# Altium schematic symbol library Converter_DCDC.SchLib: 947 symbols (part 9 of 12)
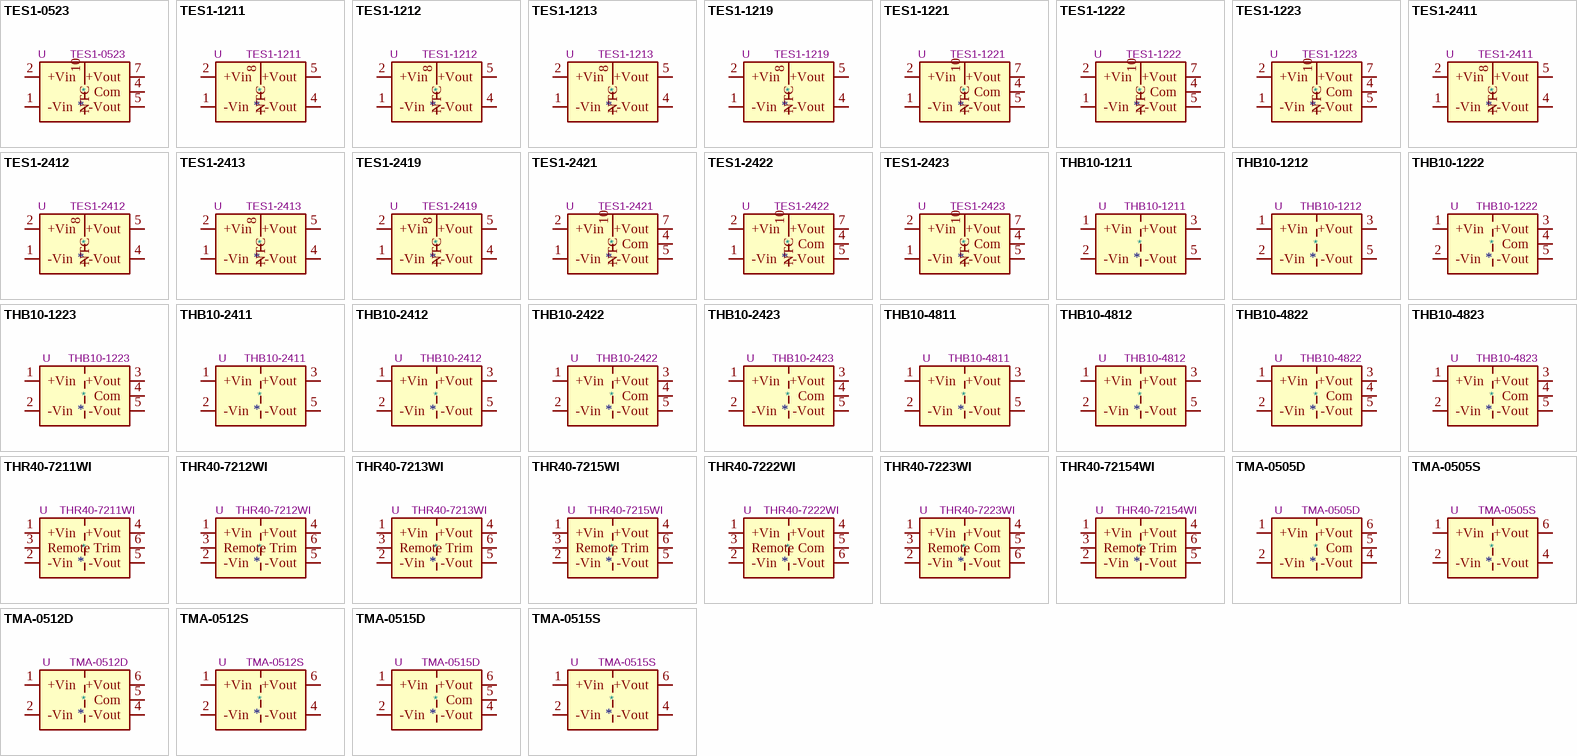
[diagram p31: symbols TES1-0523 to TMA-0515S]

## TES1-2413
designator *  value TES1-2413  Reference: U
1W DC/DC converter unregulated, 21.6-26.4V input, 15V fixed output voltage, 67mA output, 1.5kVDC isolation, SMD-8; ki_keywords: Traco isolated dc-dc not-regulated non-regulated single; ki_fp_filters: Converter*DCDC*TRACO*TES1*051x*121x*241x*Single*SMD*; Footprint: Converter_DCDC:Converter_DCDC_TRACO_TES1-051x_121x_241x_Single_SMD; Datasheet: https://www.tracopower.com/products/tes1.pdf; Description_: 1W DC/DC converter unregulated, 21.6-26.4V input, 15V fixed output voltage, 67mA output, 1.5kVDC isolation, SMD-8
pins: 1 -Vin, 2 +Vin, 4 -Vout, 5 +Vout, 8 NTC

## TES1-2419
designator *  value TES1-2419  Reference: U
1W DC/DC converter unregulated, 21.6-26.4V input, 9V fixed output voltage, 110mA output, 1.5kVDC isolation, SMD-8; ki_keywords: Traco isolated dc-dc not-regulated non-regulated single; ki_fp_filters: Converter*DCDC*TRACO*TES1*051x*121x*241x*Single*SMD*; Footprint: Converter_DCDC:Converter_DCDC_TRACO_TES1-051x_121x_241x_Single_SMD; Datasheet: https://www.tracopower.com/products/tes1.pdf; Description_: 1W DC/DC converter unregulated, 21.6-26.4V input, 9V fixed output voltage, 110mA output, 1.5kVDC isolation, SMD-8
pins: 1 -Vin, 2 +Vin, 4 -Vout, 5 +Vout, 8 NTC

## TES1-2421
designator *  value TES1-2421  Reference: U
1W DC/DC converter unregulated, 21.6-26.4V input, ±5V fixed output voltage, 100mA each output, 1.5kVDC isolation, SMD-10; ki_keywords: Traco isolated isolation dc-dc DC/DC converter not-regulated non-regulated dual 1W; ki_fp_filters: Converter*DCDC*TRACO*TES1*052x*122x*242x*Dual*SMD*; Footprint: Converter_DCDC:Converter_DCDC_TRACO_TES1-052x_122x_242x_Dual_SMD; Datasheet: https://www.tracopower.com/products/tes1.pdf; Description_: 1W DC/DC converter unregulated, 21.6-26.4V input, ±5V fixed output voltage, 100mA each output, 1.5kVDC isolation, SMD-10
pins: 1 -Vin, 2 +Vin, 4 Com, 5 -Vout, 7 +Vout, 10 NTC

## TES1-2422
designator *  value TES1-2422  Reference: U
1W DC/DC converter unregulated, 21.6-26.4V input, ±12V fixed output voltage, 42mA each output, 1.5kVDC isolation, SMD-10; ki_keywords: Traco isolated dc-dc not-regulated non-regulated dual; ki_fp_filters: Converter*DCDC*TRACO*TES1*052x*122x*242x*Dual*SMD*; Footprint: Converter_DCDC:Converter_DCDC_TRACO_TES1-052x_122x_242x_Dual_SMD; Datasheet: https://www.tracopower.com/products/tes1.pdf; Description_: 1W DC/DC converter unregulated, 21.6-26.4V input, ±12V fixed output voltage, 42mA each output, 1.5kVDC isolation, SMD-10
pins: 1 -Vin, 2 +Vin, 4 Com, 5 -Vout, 7 +Vout, 10 NTC

## TES1-2423
designator *  value TES1-2423  Reference: U
1W DC/DC converter unregulated, 21.6-26.4V input, ±15V fixed output voltage, 33mA each output, 1.5kVDC isolation, SMD-10; ki_keywords: Traco isolated dc-dc not-regulated non-regulated dual; ki_fp_filters: Converter*DCDC*TRACO*TES1*052x*122x*242x*Dual*SMD*; Footprint: Converter_DCDC:Converter_DCDC_TRACO_TES1-052x_122x_242x_Dual_SMD; Datasheet: https://www.tracopower.com/products/tes1.pdf; Description_: 1W DC/DC converter unregulated, 21.6-26.4V input, ±15V fixed output voltage, 33mA each output, 1.5kVDC isolation, SMD-10
pins: 1 -Vin, 2 +Vin, 4 Com, 5 -Vout, 7 +Vout, 10 NTC

## THB10-1211
designator *  value THB10-1211  Reference: U
10W DC/DC converter regulated, 9-18V input, 5.1V fixed output voltage, 1600mA output, reinforced 4.2kVAC isolation, 2"x1"; ki_keywords: Traco reinforced isolated isolation dc-dc converter regulated single 10W; ki_fp_filters: Converter*DCDC*TRACO*THB10*xxxx*Single*; Footprint: Converter_DCDC:Converter_DCDC_TRACO_THB10-xxxx_Single_THT; Datasheet: https://www.tracopower.com/products/thb10.pdf; Description_: 10W DC/DC converter regulated, 9-18V input, 5.1V fixed output voltage, 1600mA output, reinforced 4.2kVAC isolation, 2"x1"
pins: 1 +Vin, 2 -Vin, 3 +Vout, 5 -Vout

## THB10-1212
designator *  value THB10-1212  Reference: U
10W DC/DC converter regulated, 9-18V input, 12V fixed output voltage, 835mA output, reinforced 4.2kVAC isolation, 2"x1"; ki_keywords: Traco reinforced isolated isolation dc-dc converter regulated single 10W; ki_fp_filters: Converter*DCDC*TRACO*THB10*xxxx*Single*; Footprint: Converter_DCDC:Converter_DCDC_TRACO_THB10-xxxx_Single_THT; Datasheet: https://www.tracopower.com/products/thb10.pdf; Description_: 10W DC/DC converter regulated, 9-18V input, 12V fixed output voltage, 835mA output, reinforced 4.2kVAC isolation, 2"x1"
pins: 1 +Vin, 2 -Vin, 3 +Vout, 5 -Vout

## THB10-1222
designator *  value THB10-1222  Reference: U
10W DC/DC converter regulated, 9-18V input, ±12V fixed output voltage, 417mA each output, reinforced 4.2kVAC isolation, 2"x1"; ki_keywords: Traco reinforced isolated isolation dc-dc converter regulated dual 10W; ki_fp_filters: Converter*DCDC*TRACO*THB10*xxxx*Dual*; Footprint: Converter_DCDC:Converter_DCDC_TRACO_THB10-xxxx_Dual_THT; Datasheet: https://www.tracopower.com/products/thb10.pdf; Description_: 10W DC/DC converter regulated, 9-18V input, ±12V fixed output voltage, 417mA each output, reinforced 4.2kVAC isolation, 2"x1"
pins: 1 +Vin, 2 -Vin, 3 +Vout, 4 Com, 5 -Vout

## THB10-1223
designator *  value THB10-1223  Reference: U
10W DC/DC converter regulated, 9-18V input, ±15V fixed output voltage, 333mA each output, reinforced 4.2kVAC isolation, 2"x1"; ki_keywords: Traco reinforced isolated isolation dc-dc converter regulated dual 10W; ki_fp_filters: Converter*DCDC*TRACO*THB10*xxxx*Dual*; Footprint: Converter_DCDC:Converter_DCDC_TRACO_THB10-xxxx_Dual_THT; Datasheet: https://www.tracopower.com/products/thb10.pdf; Description_: 10W DC/DC converter regulated, 9-18V input, ±15V fixed output voltage, 333mA each output, reinforced 4.2kVAC isolation, 2"x1"
pins: 1 +Vin, 2 -Vin, 3 +Vout, 4 Com, 5 -Vout

## THB10-2411
designator *  value THB10-2411  Reference: U
10W DC/DC converter regulated, 18-36V input, 5.1V fixed output voltage, 2000mA output, reinforced 4.2kVAC isolation, 2"x1"; ki_keywords: Traco reinforced isolated isolation dc-dc converter regulated single 10W; ki_fp_filters: Converter*DCDC*TRACO*THB10*xxxx*Single*; Footprint: Converter_DCDC:Converter_DCDC_TRACO_THB10-xxxx_Single_THT; Datasheet: https://www.tracopower.com/products/thb10.pdf; Description_: 10W DC/DC converter regulated, 18-36V input, 5.1V fixed output voltage, 2000mA output, reinforced 4.2kVAC isolation, 2"x1"
pins: 1 +Vin, 2 -Vin, 3 +Vout, 5 -Vout

## THB10-2412
designator *  value THB10-2412  Reference: U
10W DC/DC converter regulated, 18-36V input, 12V fixed output voltage, 835mA output, reinforced 4.2kVAC isolation, 2"x1"; ki_keywords: Traco reinforced isolated isolation dc-dc converter regulated single 10W; ki_fp_filters: Converter*DCDC*TRACO*THB10*xxxx*Single*; Footprint: Converter_DCDC:Converter_DCDC_TRACO_THB10-xxxx_Single_THT; Datasheet: https://www.tracopower.com/products/thb10.pdf; Description_: 10W DC/DC converter regulated, 18-36V input, 12V fixed output voltage, 835mA output, reinforced 4.2kVAC isolation, 2"x1"
pins: 1 +Vin, 2 -Vin, 3 +Vout, 5 -Vout

## THB10-2422
designator *  value THB10-2422  Reference: U
10W DC/DC converter regulated, 18-36V input, ±12V fixed output voltage, 417mA each output, reinforced 4.2kVAC isolation, 2"x1"; ki_keywords: Traco reinforced isolated isolation dc-dc converter regulated dual 10W; ki_fp_filters: Converter*DCDC*TRACO*THB10*xxxx*Dual*; Footprint: Converter_DCDC:Converter_DCDC_TRACO_THB10-xxxx_Dual_THT; Datasheet: https://www.tracopower.com/products/thb10.pdf; Description_: 10W DC/DC converter regulated, 18-36V input, ±12V fixed output voltage, 417mA each output, reinforced 4.2kVAC isolation, 2"x1"
pins: 1 +Vin, 2 -Vin, 3 +Vout, 4 Com, 5 -Vout

## THB10-2423
designator *  value THB10-2423  Reference: U
10W DC/DC converter regulated, 18-36V input, ±15V fixed output voltage, 333mA each output, reinforced 4.2kVAC isolation, 2"x1"; ki_keywords: Traco reinforced isolated isolation dc-dc converter regulated dual 10W; ki_fp_filters: Converter*DCDC*TRACO*THB10*xxxx*Dual*; Footprint: Converter_DCDC:Converter_DCDC_TRACO_THB10-xxxx_Dual_THT; Datasheet: https://www.tracopower.com/products/thb10.pdf; Description_: 10W DC/DC converter regulated, 18-36V input, ±15V fixed output voltage, 333mA each output, reinforced 4.2kVAC isolation, 2"x1"
pins: 1 +Vin, 2 -Vin, 3 +Vout, 4 Com, 5 -Vout

## THB10-4811
designator *  value THB10-4811  Reference: U
10W DC/DC converter regulated, 36-75V input, 5.1V fixed output voltage, 2000mA output, reinforced 4.2kVAC isolation, 2"x1"; ki_keywords: Traco reinforced isolated isolation dc-dc converter regulated single 10W; ki_fp_filters: Converter*DCDC*TRACO*THB10*xxxx*Single*; Footprint: Converter_DCDC:Converter_DCDC_TRACO_THB10-xxxx_Single_THT; Datasheet: https://www.tracopower.com/products/thb10.pdf; Description_: 10W DC/DC converter regulated, 36-75V input, 5.1V fixed output voltage, 2000mA output, reinforced 4.2kVAC isolation, 2"x1"
pins: 1 +Vin, 2 -Vin, 3 +Vout, 5 -Vout

## THB10-4812
designator *  value THB10-4812  Reference: U
10W DC/DC converter regulated, 36-75V input, 12V fixed output voltage, 835mA output, reinforced 4.2kVAC isolation, 2"x1"; ki_keywords: Traco reinforced isolated isolation dc-dc converter regulated single 10W; ki_fp_filters: Converter*DCDC*TRACO*THB10*xxxx*Single*; Footprint: Converter_DCDC:Converter_DCDC_TRACO_THB10-xxxx_Single_THT; Datasheet: https://www.tracopower.com/products/thb10.pdf; Description_: 10W DC/DC converter regulated, 36-75V input, 12V fixed output voltage, 835mA output, reinforced 4.2kVAC isolation, 2"x1"
pins: 1 +Vin, 2 -Vin, 3 +Vout, 5 -Vout

## THB10-4822
designator *  value THB10-4822  Reference: U
10W DC/DC converter regulated, 36-75V input, ±12V fixed output voltage, 417mA each output, reinforced 4.2kVAC isolation, 2"x1"; ki_keywords: Traco reinforced isolated isolation dc-dc converter regulated dual 10W; ki_fp_filters: Converter*DCDC*TRACO*THB10*xxxx*Dual*; Footprint: Converter_DCDC:Converter_DCDC_TRACO_THB10-xxxx_Dual_THT; Datasheet: https://www.tracopower.com/products/thb10.pdf; Description_: 10W DC/DC converter regulated, 36-75V input, ±12V fixed output voltage, 417mA each output, reinforced 4.2kVAC isolation, 2"x1"
pins: 1 +Vin, 2 -Vin, 3 +Vout, 4 Com, 5 -Vout

## THB10-4823
designator *  value THB10-4823  Reference: U
10W DC/DC converter regulated, 36-75V input, ±15V fixed output voltage, 333mA each output, reinforced 4.2kVAC isolation, 2"x1"; ki_keywords: Traco reinforced isolated isolation dc-dc converter regulated dual 10W; ki_fp_filters: Converter*DCDC*TRACO*THB10*xxxx*Dual*; Footprint: Converter_DCDC:Converter_DCDC_TRACO_THB10-xxxx_Dual_THT; Datasheet: https://www.tracopower.com/products/thb10.pdf; Description_: 10W DC/DC converter regulated, 36-75V input, ±15V fixed output voltage, 333mA each output, reinforced 4.2kVAC isolation, 2"x1"
pins: 1 +Vin, 2 -Vin, 3 +Vout, 4 Com, 5 -Vout

## THR40-7211WI
designator *  value THR40-7211WI  Reference: U
40W DC/DC industrial converter regulated, 36-160V input, 5V fixed output voltage, 8A output, 3.0kVAC isolation, 2”x1”; ki_keywords: Traco isolated dc-dc 62368-1 single; ki_fp_filters: Converter*DCDC*TRACO*THR40*72xxWI*THT*; Footprint: Converter_DCDC:Converter_DCDC_TRACO_THR40-72xxWI_THT; Datasheet: https://www.tracopower.com/products/thr40wi.pdf; Description_: 40W DC/DC industrial converter regulated, 36-160V input, 5V fixed output voltage, 8A output, 3.0kVAC isolation, 2”x1”
pins: 1 +Vin, 2 -Vin, 3 Remote, 4 +Vout, 5 -Vout, 6 Trim

## THR40-7212WI
designator *  value THR40-7212WI  Reference: U
40W DC/DC industrial converter regulated, 36-160V input, 12V fixed output voltage, 3.33A output, 3.0kVAC isolation, 2”x1”; ki_keywords: Traco isolated dc-dc 62368-1 single; ki_fp_filters: Converter*DCDC*TRACO*THR40*72xxWI*THT*; Footprint: Converter_DCDC:Converter_DCDC_TRACO_THR40-72xxWI_THT; Datasheet: https://www.tracopower.com/products/thr40wi.pdf; Description_: 40W DC/DC industrial converter regulated, 36-160V input, 12V fixed output voltage, 3.33A output, 3.0kVAC isolation, 2”x1”
pins: 1 +Vin, 2 -Vin, 3 Remote, 4 +Vout, 5 -Vout, 6 Trim

## THR40-7213WI
designator *  value THR40-7213WI  Reference: U
40W DC/DC industrial converter regulated, 36-160V input, 15V fixed output voltage, 2.67A output, 3.0kVAC isolation, 2”x1”; ki_keywords: Traco isolated dc-dc 62368-1 single; ki_fp_filters: Converter*DCDC*TRACO*THR40*72xxWI*THT*; Footprint: Converter_DCDC:Converter_DCDC_TRACO_THR40-72xxWI_THT; Datasheet: https://www.tracopower.com/products/thr40wi.pdf; Description_: 40W DC/DC industrial converter regulated, 36-160V input, 15V fixed output voltage, 2.67A output, 3.0kVAC isolation, 2”x1”
pins: 1 +Vin, 2 -Vin, 3 Remote, 4 +Vout, 5 -Vout, 6 Trim

## THR40-7215WI
designator *  value THR40-7215WI  Reference: U
40W DC/DC industrial converter regulated, 36-160V input, 24V fixed output voltage, 1.67A output, 3.0kVAC isolation, 2”x1”; ki_keywords: Traco isolated dc-dc 62368-1 single; ki_fp_filters: Converter*DCDC*TRACO*THR40*72xxWI*THT*; Footprint: Converter_DCDC:Converter_DCDC_TRACO_THR40-72xxWI_THT; Datasheet: https://www.tracopower.com/products/thr40wi.pdf; Description_: 40W DC/DC industrial converter regulated, 36-160V input, 24V fixed output voltage, 1.67A output, 3.0kVAC isolation, 2”x1”
pins: 1 +Vin, 2 -Vin, 3 Remote, 4 +Vout, 5 -Vout, 6 Trim

## THR40-7222WI
designator *  value THR40-7222WI  Reference: U
40W DC/DC industrial converter regulated, 36-160V input, ±12V fixed output voltage, 1.67A each output, 3.0kVAC isolation, 2”x1”; ki_keywords: Traco isolated dc-dc 62368-1 dual; ki_fp_filters: Converter*DCDC*TRACO*THR40*72xxWI*THT*; Footprint: Converter_DCDC:Converter_DCDC_TRACO_THR40-72xxWI_THT; Datasheet: https://www.tracopower.com/products/thr40wi.pdf; Description_: 40W DC/DC industrial converter regulated, 36-160V input, ±12V fixed output voltage, 1.67A each output, 3.0kVAC isolation, 2”x1”
pins: 1 +Vin, 2 -Vin, 3 Remote, 4 +Vout, 5 Com, 6 -Vout

## THR40-7223WI
designator *  value THR40-7223WI  Reference: U
40W DC/DC industrial converter regulated, 36-160V input, ±15V fixed output voltage, 1.33A each output, 3.0kVAC isolation, 2”x1”; ki_keywords: Traco isolated dc-dc 62368-1 dual; ki_fp_filters: Converter*DCDC*TRACO*THR40*72xxWI*THT*; Footprint: Converter_DCDC:Converter_DCDC_TRACO_THR40-72xxWI_THT; Datasheet: https://www.tracopower.com/products/thr40wi.pdf; Description_: 40W DC/DC industrial converter regulated, 36-160V input, ±15V fixed output voltage, 1.33A each output, 3.0kVAC isolation, 2”x1”
pins: 1 +Vin, 2 -Vin, 3 Remote, 4 +Vout, 5 Com, 6 -Vout

## THR40-72154WI
designator *  value THR40-72154WI  Reference: U
40W DC/DC industrial converter regulated, 36-160V input, 54V fixed output voltage, 741mA output, 3.0kVAC isolation, 2”x1”; ki_keywords: Traco isolated dc-dc 62368-1 single; ki_fp_filters: Converter*DCDC*TRACO*THR40*72xxWI*THT*; Footprint: Converter_DCDC:Converter_DCDC_TRACO_THR40-72xxWI_THT; Datasheet: https://www.tracopower.com/products/thr40wi.pdf; Description_: 40W DC/DC industrial converter regulated, 36-160V input, 54V fixed output voltage, 741mA output, 3.0kVAC isolation, 2”x1”
pins: 1 +Vin, 2 -Vin, 3 Remote, 4 +Vout, 5 -Vout, 6 Trim

## TMA-0505D
designator *  value TMA-0505D  Reference: U
1W DC/DC converter unregulated, 4.5-5.5V input, ±5V fixed output voltage, 100mA each output, 1.0kVDC isolation, SIP-7; ki_keywords: Traco isolated isolation dc-dc DC/DC converter not-regulated non-regulated dual 1W; ki_fp_filters: Converter*DCDC*TRACO*TMA*05xx*Dual*; Footprint: Converter_DCDC:Converter_DCDC_TRACO_TMA-05xxD_12xxD_Dual_THT; Datasheet: https://www.tracopower.com/products/tma.pdf; Description_: 1W DC/DC converter unregulated, 4.5-5.5V input, ±5V fixed output voltage, 100mA each output, 1.0kVDC isolation, SIP-7
pins: 1 +Vin, 2 -Vin, 4 -Vout, 5 Com, 6 +Vout

## TMA-0505S
designator *  value TMA-0505S  Reference: U
1W DC/DC converter unregulated, 4.5-5.5V input, 5V fixed output voltage, 200mA output, 1.0kVDC isolation, SIP-7; ki_keywords: Traco isolated isolation dc-dc converter not-regulated non-regulated single 1W; ki_fp_filters: Converter*DCDC*TRACO*TMA*05xx*Single*; Footprint: Converter_DCDC:Converter_DCDC_TRACO_TMA-05xxS_12xxS_Single_THT; Datasheet: https://www.tracopower.com/products/tma.pdf; Description_: 1W DC/DC converter unregulated, 4.5-5.5V input, 5V fixed output voltage, 200mA output, 1.0kVDC isolation, SIP-7
pins: 1 +Vin, 2 -Vin, 4 -Vout, 6 +Vout

## TMA-0512D
designator *  value TMA-0512D  Reference: U
1W DC/DC converter unregulated, 4.5-5.5V input, ±12V fixed output voltage, 42mA each output, 1.0kVDC isolation, SIP-7; ki_keywords: Traco isolated isolation dc-dc DC/DC converter not-regulated non-regulated dual 1W; ki_fp_filters: Converter*DCDC*TRACO*TMA*05xx*Dual*; Footprint: Converter_DCDC:Converter_DCDC_TRACO_TMA-05xxD_12xxD_Dual_THT; Datasheet: https://www.tracopower.com/products/tma.pdf; Description_: 1W DC/DC converter unregulated, 4.5-5.5V input, ±12V fixed output voltage, 42mA each output, 1.0kVDC isolation, SIP-7
pins: 1 +Vin, 2 -Vin, 4 -Vout, 5 Com, 6 +Vout

## TMA-0512S
designator *  value TMA-0512S  Reference: U
1W DC/DC converter unregulated, 4.5-5.5V input, 12V fixed output voltage, 84mA output, 1.0kVDC isolation, SIP-7; ki_keywords: Traco isolated isolation dc-dc converter not-regulated non-regulated single 1W; ki_fp_filters: Converter*DCDC*TRACO*TMA*05xx*Single*; Footprint: Converter_DCDC:Converter_DCDC_TRACO_TMA-05xxS_12xxS_Single_THT; Datasheet: https://www.tracopower.com/products/tma.pdf; Description_: 1W DC/DC converter unregulated, 4.5-5.5V input, 12V fixed output voltage, 84mA output, 1.0kVDC isolation, SIP-7
pins: 1 +Vin, 2 -Vin, 4 -Vout, 6 +Vout

## TMA-0515D
designator *  value TMA-0515D  Reference: U
1W DC/DC converter unregulated, 4.5-5.5V input, ±15V fixed output voltage, 34mA each output, 1.0kVDC isolation, SIP-7; ki_keywords: Traco isolated isolation dc-dc DC/DC converter not-regulated non-regulated dual 1W; ki_fp_filters: Converter*DCDC*TRACO*TMA*05xx*Dual*; Footprint: Converter_DCDC:Converter_DCDC_TRACO_TMA-05xxD_12xxD_Dual_THT; Datasheet: https://www.tracopower.com/products/tma.pdf; Description_: 1W DC/DC converter unregulated, 4.5-5.5V input, ±15V fixed output voltage, 34mA each output, 1.0kVDC isolation, SIP-7
pins: 1 +Vin, 2 -Vin, 4 -Vout, 5 Com, 6 +Vout

## TMA-0515S
designator *  value TMA-0515S  Reference: U
1W DC/DC converter unregulated, 4.5-5.5V input, 15V fixed output voltage, 67mA output, 1.0kVDC isolation, SIP-7; ki_keywords: Traco isolated isolation dc-dc converter not-regulated non-regulated single 1W; ki_fp_filters: Converter*DCDC*TRACO*TMA*05xx*Single*; Footprint: Converter_DCDC:Converter_DCDC_TRACO_TMA-05xxS_12xxS_Single_THT; Datasheet: https://www.tracopower.com/products/tma.pdf; Description_: 1W DC/DC converter unregulated, 4.5-5.5V input, 15V fixed output voltage, 67mA output, 1.0kVDC isolation, SIP-7
pins: 1 +Vin, 2 -Vin, 4 -Vout, 6 +Vout

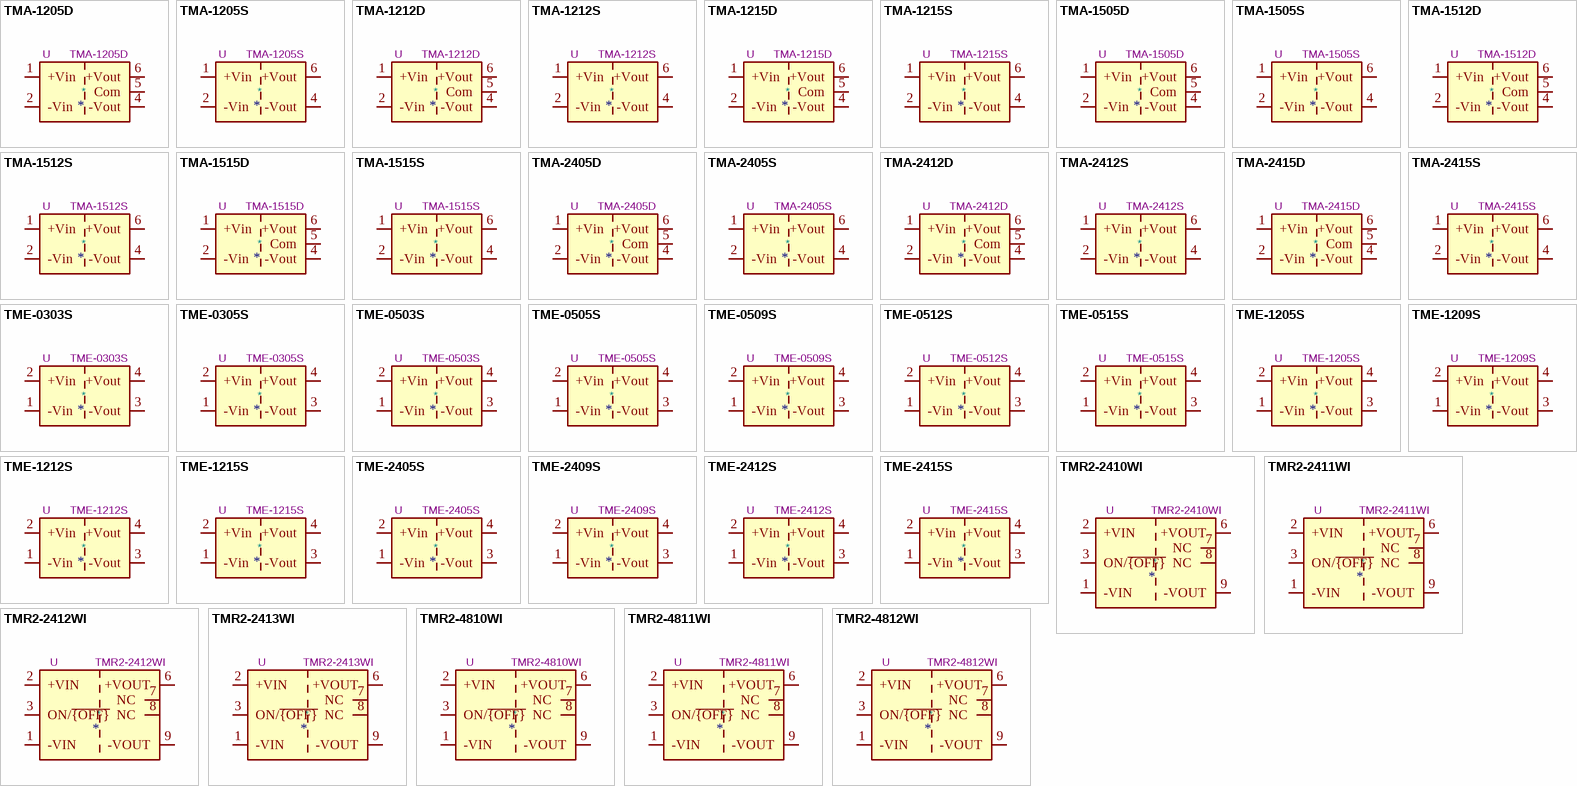
[diagram p18: symbols TMA-1205D to TMR2-4812WI]

## TMA-1205D
designator *  value TMA-1205D  Reference: U
1W DC/DC converter unregulated, 10.8-13.2V input, ±5V fixed output voltage, 100mA each output, 1.0kVDC isolation, SIP-7; ki_keywords: Traco isolated isolation dc-dc DC/DC converter not-regulated non-regulated dual 1W; ki_fp_filters: Converter*DCDC*TRACO*TMA*12xx*Dual*; Footprint: Converter_DCDC:Converter_DCDC_TRACO_TMA-05xxD_12xxD_Dual_THT; Datasheet: https://www.tracopower.com/products/tma.pdf; Description_: 1W DC/DC converter unregulated, 10.8-13.2V input, ±5V fixed output voltage, 100mA each output, 1.0kVDC isolation, SIP-7
pins: 1 +Vin, 2 -Vin, 4 -Vout, 5 Com, 6 +Vout

## TMA-1205S
designator *  value TMA-1205S  Reference: U
1W DC/DC converter unregulated, 10.8-13.2V input, 5V fixed output voltage, 200mA output, 1.0kVDC isolation, SIP-7; ki_keywords: Traco isolated isolation dc-dc converter not-regulated non-regulated single 1W; ki_fp_filters: Converter*DCDC*TRACO*TMA*12xx*Single*; Footprint: Converter_DCDC:Converter_DCDC_TRACO_TMA-05xxS_12xxS_Single_THT; Datasheet: https://www.tracopower.com/products/tma.pdf; Description_: 1W DC/DC converter unregulated, 10.8-13.2V input, 5V fixed output voltage, 200mA output, 1.0kVDC isolation, SIP-7
pins: 1 +Vin, 2 -Vin, 4 -Vout, 6 +Vout

## TMA-1212D
designator *  value TMA-1212D  Reference: U
1W DC/DC converter unregulated, 10.8-13.2 input, ±12V fixed output voltage, 42mA each output, 1.0kVDC isolation, SIP-7; ki_keywords: Traco isolated isolation dc-dc DC/DC converter not-regulated non-regulated dual 1W; ki_fp_filters: Converter*DCDC*TRACO*TMA*12xx*Dual*; Footprint: Converter_DCDC:Converter_DCDC_TRACO_TMA-05xxD_12xxD_Dual_THT; Datasheet: https://www.tracopower.com/products/tma.pdf; Description_: 1W DC/DC converter unregulated, 10.8-13.2 input, ±12V fixed output voltage, 42mA each output, 1.0kVDC isolation, SIP-7
pins: 1 +Vin, 2 -Vin, 4 -Vout, 5 Com, 6 +Vout

## TMA-1212S
designator *  value TMA-1212S  Reference: U
1W DC/DC converter unregulated, 10.8-13.2V input, 12V fixed output voltage, 84mA output, 1.0kVDC isolation, SIP-7; ki_keywords: Traco isolated isolation dc-dc converter not-regulated non-regulated single 1W; ki_fp_filters: Converter*DCDC*TRACO*TMA*12xx*Single*; Footprint: Converter_DCDC:Converter_DCDC_TRACO_TMA-05xxS_12xxS_Single_THT; Datasheet: https://www.tracopower.com/products/tma.pdf; Description_: 1W DC/DC converter unregulated, 10.8-13.2V input, 12V fixed output voltage, 84mA output, 1.0kVDC isolation, SIP-7
pins: 1 +Vin, 2 -Vin, 4 -Vout, 6 +Vout

## TMA-1215D
designator *  value TMA-1215D  Reference: U
1W DC/DC converter unregulated, 10.8-13.2V input, ±15V fixed output voltage, 34mA each output, 1.0kVDC isolation, SIP-7; ki_keywords: Traco isolated isolation dc-dc DC/DC converter not-regulated non-regulated dual 1W; ki_fp_filters: Converter*DCDC*TRACO*TMA*12xx*Dual*; Footprint: Converter_DCDC:Converter_DCDC_TRACO_TMA-05xxD_12xxD_Dual_THT; Datasheet: https://www.tracopower.com/products/tma.pdf; Description_: 1W DC/DC converter unregulated, 10.8-13.2V input, ±15V fixed output voltage, 34mA each output, 1.0kVDC isolation, SIP-7
pins: 1 +Vin, 2 -Vin, 4 -Vout, 5 Com, 6 +Vout

## TMA-1215S
designator *  value TMA-1215S  Reference: U
1W DC/DC converter unregulated, 10.8-13.2V input, 15V fixed output voltage, 67mA output, 1.0kVDC isolation, SIP-7; ki_keywords: Traco isolated isolation dc-dc converter not-regulated non-regulated single 1W; ki_fp_filters: Converter*DCDC*TRACO*TMA*12xx*Single*; Footprint: Converter_DCDC:Converter_DCDC_TRACO_TMA-05xxS_12xxS_Single_THT; Datasheet: https://www.tracopower.com/products/tma.pdf; Description_: 1W DC/DC converter unregulated, 10.8-13.2V input, 15V fixed output voltage, 67mA output, 1.0kVDC isolation, SIP-7
pins: 1 +Vin, 2 -Vin, 4 -Vout, 6 +Vout

## TMA-1505D
designator *  value TMA-1505D  Reference: U
1W DC/DC converter unregulated, 13.5-16.5V input, ±5V fixed output voltage, 100mA each output, 1.0kVDC isolation, SIP-7; ki_keywords: Traco isolated isolation dc-dc DC/DC converter not-regulated non-regulated dual 1W; ki_fp_filters: Converter*DCDC*TRACO*TMA*15xx*Dual*; Footprint: Converter_DCDC:Converter_DCDC_TRACO_TMA-15xxD_24xxD_Dual_THT; Datasheet: https://www.tracopower.com/products/tma.pdf; Description_: 1W DC/DC converter unregulated, 13.5-16.5V input, ±5V fixed output voltage, 100mA each output, 1.0kVDC isolation, SIP-7
pins: 1 +Vin, 2 -Vin, 4 -Vout, 5 Com, 6 +Vout

## TMA-1505S
designator *  value TMA-1505S  Reference: U
1W DC/DC converter unregulated, 13.5-16.5V input, 5V fixed output voltage, 200mA output, 1.0kVDC isolation, SIP-7; ki_keywords: Traco isolated isolation dc-dc converter not-regulated non-regulated single 1W; ki_fp_filters: Converter*DCDC*TRACO*TMA*15xx*Single*; Footprint: Converter_DCDC:Converter_DCDC_TRACO_TMA-15xxS_24xxS_Single_THT; Datasheet: https://www.tracopower.com/products/tma.pdf; Description_: 1W DC/DC converter unregulated, 13.5-16.5V input, 5V fixed output voltage, 200mA output, 1.0kVDC isolation, SIP-7
pins: 1 +Vin, 2 -Vin, 4 -Vout, 6 +Vout

## TMA-1512D
designator *  value TMA-1512D  Reference: U
1W DC/DC converter unregulated, 13.5-16.5V input, ±12V fixed output voltage, 42mA each output, 1.0kVDC isolation, SIP-7; ki_keywords: Traco isolated isolation dc-dc DC/DC converter not-regulated non-regulated dual 1W; ki_fp_filters: Converter*DCDC*TRACO*TMA*15xx*Dual*; Footprint: Converter_DCDC:Converter_DCDC_TRACO_TMA-15xxD_24xxD_Dual_THT; Datasheet: https://www.tracopower.com/products/tma.pdf; Description_: 1W DC/DC converter unregulated, 13.5-16.5V input, ±12V fixed output voltage, 42mA each output, 1.0kVDC isolation, SIP-7
pins: 1 +Vin, 2 -Vin, 4 -Vout, 5 Com, 6 +Vout

## TMA-1512S
designator *  value TMA-1512S  Reference: U
1W DC/DC converter unregulated, 13.5-16.5V input, 12V fixed output voltage, 84mA output, 1.0kVDC isolation, SIP-7; ki_keywords: Traco isolated isolation dc-dc converter not-regulated non-regulated single 1W; ki_fp_filters: Converter*DCDC*TRACO*TMA*15xx*Single*; Footprint: Converter_DCDC:Converter_DCDC_TRACO_TMA-15xxS_24xxS_Single_THT; Datasheet: https://www.tracopower.com/products/tma.pdf; Description_: 1W DC/DC converter unregulated, 13.5-16.5V input, 12V fixed output voltage, 84mA output, 1.0kVDC isolation, SIP-7
pins: 1 +Vin, 2 -Vin, 4 -Vout, 6 +Vout

## TMA-1515D
designator *  value TMA-1515D  Reference: U
1W DC/DC converter unregulated, 13.5-16.5V input, ±15V fixed output voltage, 34mA each output, 1.0kVDC isolation, SIP-7; ki_keywords: Traco isolated isolation dc-dc DC/DC converter not-regulated non-regulated dual 1W; ki_fp_filters: Converter*DCDC*TRACO*TMA*15xx*Dual*; Footprint: Converter_DCDC:Converter_DCDC_TRACO_TMA-15xxD_24xxD_Dual_THT; Datasheet: https://www.tracopower.com/products/tma.pdf; Description_: 1W DC/DC converter unregulated, 13.5-16.5V input, ±15V fixed output voltage, 34mA each output, 1.0kVDC isolation, SIP-7
pins: 1 +Vin, 2 -Vin, 4 -Vout, 5 Com, 6 +Vout

## TMA-1515S
designator *  value TMA-1515S  Reference: U
1W DC/DC converter unregulated, 13.5-16.5V input, 15V fixed output voltage, 67mA output, 1.0kVDC isolation, SIP-7; ki_keywords: Traco isolated isolation dc-dc converter not-regulated non-regulated single 1W; ki_fp_filters: Converter*DCDC*TRACO*TMA*15xx*Single*; Footprint: Converter_DCDC:Converter_DCDC_TRACO_TMA-15xxS_24xxS_Single_THT; Datasheet: https://www.tracopower.com/products/tma.pdf; Description_: 1W DC/DC converter unregulated, 13.5-16.5V input, 15V fixed output voltage, 67mA output, 1.0kVDC isolation, SIP-7
pins: 1 +Vin, 2 -Vin, 4 -Vout, 6 +Vout

## TMA-2405D
designator *  value TMA-2405D  Reference: U
1W DC/DC converter unregulated, 21.6-26.4V input, ±5V fixed output voltage, 100mA each output, 1.0kVDC isolation, SIP-7; ki_keywords: Traco isolated isolation dc-dc DC/DC converter not-regulated non-regulated dual 1W; ki_fp_filters: Converter*DCDC*TRACO*TMA*24xx*Dual*; Footprint: Converter_DCDC:Converter_DCDC_TRACO_TMA-15xxD_24xxD_Dual_THT; Datasheet: https://www.tracopower.com/products/tma.pdf; Description_: 1W DC/DC converter unregulated, 21.6-26.4V input, ±5V fixed output voltage, 100mA each output, 1.0kVDC isolation, SIP-7
pins: 1 +Vin, 2 -Vin, 4 -Vout, 5 Com, 6 +Vout

## TMA-2405S
designator *  value TMA-2405S  Reference: U
1W DC/DC converter unregulated, 21.6-26.4V input, 5V fixed output voltage, 200mA output, 1.0kVDC isolation, SIP-7; ki_keywords: Traco isolated isolation dc-dc converter not-regulated non-regulated single 1W; ki_fp_filters: Converter*DCDC*TRACO*TMA*24xx*Single*; Footprint: Converter_DCDC:Converter_DCDC_TRACO_TMA-15xxS_24xxS_Single_THT; Datasheet: https://www.tracopower.com/products/tma.pdf; Description_: 1W DC/DC converter unregulated, 21.6-26.4V input, 5V fixed output voltage, 200mA output, 1.0kVDC isolation, SIP-7
pins: 1 +Vin, 2 -Vin, 4 -Vout, 6 +Vout

## TMA-2412D
designator *  value TMA-2412D  Reference: U
1W DC/DC converter unregulated, 21.6-26.4V input, ±12V fixed output voltage, 42mA each output, 1.0kVDC isolation, SIP-7; ki_keywords: Traco isolated isolation dc-dc DC/DC converter not-regulated non-regulated dual 1W; ki_fp_filters: Converter*DCDC*TRACO*TMA*24xx*Dual*; Footprint: Converter_DCDC:Converter_DCDC_TRACO_TMA-15xxD_24xxD_Dual_THT; Datasheet: https://www.tracopower.com/products/tma.pdf; Description_: 1W DC/DC converter unregulated, 21.6-26.4V input, ±12V fixed output voltage, 42mA each output, 1.0kVDC isolation, SIP-7
pins: 1 +Vin, 2 -Vin, 4 -Vout, 5 Com, 6 +Vout

## TMA-2412S
designator *  value TMA-2412S  Reference: U
1W DC/DC converter unregulated, 21.6-26.4V input, 12V fixed output voltage, 84mA output, 1.0kVDC isolation, SIP-7; ki_keywords: Traco isolated isolation dc-dc converter not-regulated non-regulated single 1W; ki_fp_filters: Converter*DCDC*TRACO*TMA*24xx*Single*; Footprint: Converter_DCDC:Converter_DCDC_TRACO_TMA-15xxS_24xxS_Single_THT; Datasheet: https://www.tracopower.com/products/tma.pdf; Description_: 1W DC/DC converter unregulated, 21.6-26.4V input, 12V fixed output voltage, 84mA output, 1.0kVDC isolation, SIP-7
pins: 1 +Vin, 2 -Vin, 4 -Vout, 6 +Vout

## TMA-2415D
designator *  value TMA-2415D  Reference: U
1W DC/DC converter unregulated, 21.6-26.4V input, ±15V fixed output voltage, 34mA each output, 1.0kVDC isolation, SIP-7; ki_keywords: Traco isolated isolation dc-dc DC/DC converter not-regulated non-regulated dual 1W; ki_fp_filters: Converter*DCDC*TRACO*TMA*24xx*Dual*; Footprint: Converter_DCDC:Converter_DCDC_TRACO_TMA-15xxD_24xxD_Dual_THT; Datasheet: https://www.tracopower.com/products/tma.pdf; Description_: 1W DC/DC converter unregulated, 21.6-26.4V input, ±15V fixed output voltage, 34mA each output, 1.0kVDC isolation, SIP-7
pins: 1 +Vin, 2 -Vin, 4 -Vout, 5 Com, 6 +Vout

## TMA-2415S
designator *  value TMA-2415S  Reference: U
1W DC/DC converter unregulated, 21.6-26.4V input, 15V fixed output voltage, 67mA output, 1.0kVDC isolation, SIP-7; ki_keywords: Traco isolated isolation dc-dc converter not-regulated non-regulated single 1W; ki_fp_filters: Converter*DCDC*TRACO*TMA*24xx*Single*; Footprint: Converter_DCDC:Converter_DCDC_TRACO_TMA-15xxS_24xxS_Single_THT; Datasheet: https://www.tracopower.com/products/tma.pdf; Description_: 1W DC/DC converter unregulated, 21.6-26.4V input, 15V fixed output voltage, 67mA output, 1.0kVDC isolation, SIP-7
pins: 1 +Vin, 2 -Vin, 4 -Vout, 6 +Vout

## TME-0303S
designator *  value TME-0303S  Reference: U
1W DC/DC converter unregulated, 2.97-3.63V input, 3.3V output voltage, 260mA output, 1kVDC isolation, SIP-4; ki_keywords: Traco isolated isolation dc-dc converter not-regulated non-regulated single 1W; ki_fp_filters: Converter*DCDC*TRACO*TME*03xxS*05xxS*12xxS*Single*; Footprint: Converter_DCDC:Converter_DCDC_TRACO_TME_03xxS_05xxS_12xxS_Single_THT; Datasheet: https://www.tracopower.com/products/tme.pdf; Description_: 1W DC/DC converter unregulated, 2.97-3.63V input, 3.3V output voltage, 260mA output, 1kVDC isolation, SIP-4
pins: 1 -Vin, 2 +Vin, 3 -Vout, 4 +Vout

## TME-0305S
designator *  value TME-0305S  Reference: U
1W DC/DC converter unregulated, 2.97-3.63V input, 5V output voltage, 200mA output, 1kVDC isolation, SIP-4; ki_keywords: Traco isolated isolation dc-dc converter not-regulated non-regulated single 1W; ki_fp_filters: Converter*DCDC*TRACO*TME*03xxS*05xxS*12xxS*Single*; Footprint: Converter_DCDC:Converter_DCDC_TRACO_TME_03xxS_05xxS_12xxS_Single_THT; Datasheet: https://www.tracopower.com/products/tme.pdf; Description_: 1W DC/DC converter unregulated, 2.97-3.63V input, 5V output voltage, 200mA output, 1kVDC isolation, SIP-4
pins: 1 -Vin, 2 +Vin, 3 -Vout, 4 +Vout

## TME-0503S
designator *  value TME-0503S  Reference: U
1W DC/DC converter unregulated, 4.5-5.5V input, 3.3V output voltage, 260mA output, 1kVDC isolation, SIP-4; ki_keywords: Traco isolated isolation dc-dc converter not-regulated non-regulated single 1W; ki_fp_filters: Converter*DCDC*TRACO*TME*03xxS*05xxS*12xxS*Single*; Footprint: Converter_DCDC:Converter_DCDC_TRACO_TME_03xxS_05xxS_12xxS_Single_THT; Datasheet: https://www.tracopower.com/products/tme.pdf; Description_: 1W DC/DC converter unregulated, 4.5-5.5V input, 3.3V output voltage, 260mA output, 1kVDC isolation, SIP-4
pins: 1 -Vin, 2 +Vin, 3 -Vout, 4 +Vout

## TME-0505S
designator *  value TME-0505S  Reference: U
1W DC/DC converter unregulated, 4.5-5.5V input, 5V output voltage, 200mA output, 1kVDC isolation, SIP-4; ki_keywords: Traco isolated isolation dc-dc converter not-regulated non-regulated single 1W; ki_fp_filters: Converter*DCDC*TRACO*TME*03xxS*05xxS*12xxS*Single*; Footprint: Converter_DCDC:Converter_DCDC_TRACO_TME_03xxS_05xxS_12xxS_Single_THT; Datasheet: https://www.tracopower.com/products/tme.pdf; Description_: 1W DC/DC converter unregulated, 4.5-5.5V input, 5V output voltage, 200mA output, 1kVDC isolation, SIP-4
pins: 1 -Vin, 2 +Vin, 3 -Vout, 4 +Vout

## TME-0509S
designator *  value TME-0509S  Reference: U
1W DC/DC converter unregulated, 4.5-5.5V input, 9V output voltage, 110mA output, 1kVDC isolation, SIP-4; ki_keywords: Traco isolated isolation dc-dc converter not-regulated non-regulated single 1W; ki_fp_filters: Converter*DCDC*TRACO*TME*03xxS*05xxS*12xxS*Single*; Footprint: Converter_DCDC:Converter_DCDC_TRACO_TME_03xxS_05xxS_12xxS_Single_THT; Datasheet: https://www.tracopower.com/products/tme.pdf; Description_: 1W DC/DC converter unregulated, 4.5-5.5V input, 9V output voltage, 110mA output, 1kVDC isolation, SIP-4
pins: 1 -Vin, 2 +Vin, 3 -Vout, 4 +Vout

## TME-0512S
designator *  value TME-0512S  Reference: U
1W DC/DC converter unregulated, 4.5-5.5V input, 12V output voltage, 84mA output, 1kVDC isolation, SIP-4; ki_keywords: Traco isolated isolation dc-dc converter not-regulated non-regulated single 1W; ki_fp_filters: Converter*DCDC*TRACO*TME*03xxS*05xxS*12xxS*Single*; Footprint: Converter_DCDC:Converter_DCDC_TRACO_TME_03xxS_05xxS_12xxS_Single_THT; Datasheet: https://www.tracopower.com/products/tme.pdf; Description_: 1W DC/DC converter unregulated, 4.5-5.5V input, 12V output voltage, 84mA output, 1kVDC isolation, SIP-4
pins: 1 -Vin, 2 +Vin, 3 -Vout, 4 +Vout

## TME-0515S
designator *  value TME-0515S  Reference: U
1W DC/DC converter unregulated, 4.5-5.5V input, 15V output voltage, 67mA output, 1kVDC isolation, SIP-4; ki_keywords: Traco isolated isolation dc-dc converter not-regulated non-regulated single 1W; ki_fp_filters: Converter*DCDC*TRACO*TME*03xxS*05xxS*12xxS*Single*; Footprint: Converter_DCDC:Converter_DCDC_TRACO_TME_03xxS_05xxS_12xxS_Single_THT; Datasheet: https://www.tracopower.com/products/tme.pdf; Description_: 1W DC/DC converter unregulated, 4.5-5.5V input, 15V output voltage, 67mA output, 1kVDC isolation, SIP-4
pins: 1 -Vin, 2 +Vin, 3 -Vout, 4 +Vout

## TME-1205S
designator *  value TME-1205S  Reference: U
1W DC/DC converter unregulated, 10.8-13.2V input, 5V output voltage, 200mA output, 1kVDC isolation, SIP-4; ki_keywords: Traco isolated isolation dc-dc converter not-regulated non-regulated single 1W; ki_fp_filters: Converter*DCDC*TRACO*TME*03xxS*05xxS*12xxS*Single*; Footprint: Converter_DCDC:Converter_DCDC_TRACO_TME_03xxS_05xxS_12xxS_Single_THT; Datasheet: https://www.tracopower.com/products/tme.pdf; Description_: 1W DC/DC converter unregulated, 10.8-13.2V input, 5V output voltage, 200mA output, 1kVDC isolation, SIP-4
pins: 1 -Vin, 2 +Vin, 3 -Vout, 4 +Vout

## TME-1209S
designator *  value TME-1209S  Reference: U
1W DC/DC converter unregulated, 10.8-13.2V input, 9V output voltage, 110mA output, 1kVDC isolation, SIP-4; ki_keywords: Traco isolated isolation dc-dc converter not-regulated non-regulated single 1W; ki_fp_filters: Converter*DCDC*TRACO*TME*03xxS*05xxS*12xxS*Single*; Footprint: Converter_DCDC:Converter_DCDC_TRACO_TME_03xxS_05xxS_12xxS_Single_THT; Datasheet: https://www.tracopower.com/products/tme.pdf; Description_: 1W DC/DC converter unregulated, 10.8-13.2V input, 9V output voltage, 110mA output, 1kVDC isolation, SIP-4
pins: 1 -Vin, 2 +Vin, 3 -Vout, 4 +Vout

## TME-1212S
designator *  value TME-1212S  Reference: U
1W DC/DC converter unregulated, 10.8-13.2V input, 12V output voltage, 84mA output, 1kVDC isolation, SIP-4; ki_keywords: Traco isolated isolation dc-dc converter not-regulated non-regulated single 1W; ki_fp_filters: Converter*DCDC*TRACO*TME*03xxS*05xxS*12xxS*Single*; Footprint: Converter_DCDC:Converter_DCDC_TRACO_TME_03xxS_05xxS_12xxS_Single_THT; Datasheet: https://www.tracopower.com/products/tme.pdf; Description_: 1W DC/DC converter unregulated, 10.8-13.2V input, 12V output voltage, 84mA output, 1kVDC isolation, SIP-4
pins: 1 -Vin, 2 +Vin, 3 -Vout, 4 +Vout

## TME-1215S
designator *  value TME-1215S  Reference: U
1W DC/DC converter unregulated, 10.8-13.2V input, 15V output voltage, 67mA output, 1kVDC isolation, SIP-4; ki_keywords: Traco isolated isolation dc-dc converter not-regulated non-regulated single 1W; ki_fp_filters: Converter*DCDC*TRACO*TME*03xxS*05xxS*12xxS*Single*; Footprint: Converter_DCDC:Converter_DCDC_TRACO_TME_03xxS_05xxS_12xxS_Single_THT; Datasheet: https://www.tracopower.com/products/tme.pdf; Description_: 1W DC/DC converter unregulated, 10.8-13.2V input, 15V output voltage, 67mA output, 1kVDC isolation, SIP-4
pins: 1 -Vin, 2 +Vin, 3 -Vout, 4 +Vout

## TME-2405S
designator *  value TME-2405S  Reference: U
1W DC/DC converter unregulated, 21.6-26.4V input, 5V output voltage, 200mA output, 1kVDC isolation, SIP-4; ki_keywords: Traco isolated isolation dc-dc converter not-regulated non-regulated single 1W; ki_fp_filters: Converter*DCDC*TRACO*TME*24xxS*Single*; Footprint: Converter_DCDC:Converter_DCDC_TRACO_TME_24xxS_Single_THT; Datasheet: https://www.tracopower.com/products/tme.pdf; Description_: 1W DC/DC converter unregulated, 21.6-26.4V input, 5V output voltage, 200mA output, 1kVDC isolation, SIP-4
pins: 1 -Vin, 2 +Vin, 3 -Vout, 4 +Vout

## TME-2409S
designator *  value TME-2409S  Reference: U
1W DC/DC converter unregulated, 21.6-26.4V input, 9V output voltage, 110mA output, 1kVDC isolation, SIP-4; ki_keywords: Traco isolated isolation dc-dc converter not-regulated non-regulated single 1W; ki_fp_filters: Converter*DCDC*TRACO*TME*24xxS*Single*; Footprint: Converter_DCDC:Converter_DCDC_TRACO_TME_24xxS_Single_THT; Datasheet: https://www.tracopower.com/products/tme.pdf; Description_: 1W DC/DC converter unregulated, 21.6-26.4V input, 9V output voltage, 110mA output, 1kVDC isolation, SIP-4
pins: 1 -Vin, 2 +Vin, 3 -Vout, 4 +Vout

## TME-2412S
designator *  value TME-2412S  Reference: U
1W DC/DC converter unregulated, 21.6-26.4V input, 12V output voltage, 84mA output, 1kVDC isolation, SIP-4; ki_keywords: Traco isolated isolation dc-dc converter not-regulated non-regulated single 1W; ki_fp_filters: Converter*DCDC*TRACO*TME*24xxS*Single*; Footprint: Converter_DCDC:Converter_DCDC_TRACO_TME_24xxS_Single_THT; Datasheet: https://www.tracopower.com/products/tme.pdf; Description_: 1W DC/DC converter unregulated, 21.6-26.4V input, 12V output voltage, 84mA output, 1kVDC isolation, SIP-4
pins: 1 -Vin, 2 +Vin, 3 -Vout, 4 +Vout

## TME-2415S
designator *  value TME-2415S  Reference: U
1W DC/DC converter unregulated, 21.6-26.4V input, 15V output voltage, 67mA output, 1kVDC isolation, SIP-4; ki_keywords: Traco isolated isolation dc-dc converter not-regulated non-regulated single 1W; ki_fp_filters: Converter*DCDC*TRACO*TME*24xxS*Single*; Footprint: Converter_DCDC:Converter_DCDC_TRACO_TME_24xxS_Single_THT; Datasheet: https://www.tracopower.com/products/tme.pdf; Description_: 1W DC/DC converter unregulated, 21.6-26.4V input, 15V output voltage, 67mA output, 1kVDC isolation, SIP-4
pins: 1 -Vin, 2 +Vin, 3 -Vout, 4 +Vout

## TMR2-2410WI
designator *  value TMR2-2410WI  Reference: U
500mA Regulated 2W DC/DC converter with 1.5kV isolation, 9V-36V input, 3.3V fixed Output Voltage, SIP-9; ki_keywords: Traco isolated isolation dc-dc converter transformer; ki_fp_filters: Converter*DCDC*TRACO*TMR*2xxxxWI*; Footprint: Converter_DCDC:Converter_DCDC_TRACO_TMR-2xxxxWI_THT; Datasheet: https://www.tracopower.com/products/tmr2wi.pdf; Description_: 500mA Regulated 2W DC/DC converter with 1.5kV isolation, 9V-36V input, 3.3V fixed Output Voltage, SIP-9
pins: 1 -VIN, 2 +VIN, 3 ON/~{{OFF}}, 6 +VOUT, 7 NC, 8 NC, 9 -VOUT

## TMR2-2411WI
designator *  value TMR2-2411WI  Reference: U
400mA Regulated 2W DC/DC converter with 1.5kV isolation, 9V-36V input, 5V fixed Output Voltage, SIP-9; ki_keywords: Traco isolated isolation dc-dc converter transformer; ki_fp_filters: Converter*DCDC*TRACO*TMR*2xxxxWI*; Footprint: Converter_DCDC:Converter_DCDC_TRACO_TMR-2xxxxWI_THT; Datasheet: https://www.tracopower.com/products/tmr2wi.pdf; Description_: 400mA Regulated 2W DC/DC converter with 1.5kV isolation, 9V-36V input, 5V fixed Output Voltage, SIP-9
pins: 1 -VIN, 2 +VIN, 3 ON/~{{OFF}}, 6 +VOUT, 7 NC, 8 NC, 9 -VOUT

## TMR2-2412WI
designator *  value TMR2-2412WI  Reference: U
165mA Regulated 2W DC/DC converter with 1.5kV isolation, 9V-36V input, 12V fixed Output Voltage, SIP-9; ki_keywords: Traco isolated isolation dc-dc converter transformer; ki_fp_filters: Converter*DCDC*TRACO*TMR*2xxxxWI*; Footprint: Converter_DCDC:Converter_DCDC_TRACO_TMR-2xxxxWI_THT; Datasheet: https://www.tracopower.com/products/tmr2wi.pdf; Description_: 165mA Regulated 2W DC/DC converter with 1.5kV isolation, 9V-36V input, 12V fixed Output Voltage, SIP-9
pins: 1 -VIN, 2 +VIN, 3 ON/~{{OFF}}, 6 +VOUT, 7 NC, 8 NC, 9 -VOUT

## TMR2-2413WI
designator *  value TMR2-2413WI  Reference: U
135mA Regulated 2W DC/DC converter with 1.5kV isolation, 9V-36V input, 15V fixed Output Voltage, SIP-9; ki_keywords: Traco isolated isolation dc-dc converter transformer; ki_fp_filters: Converter*DCDC*TRACO*TMR*2xxxxWI*; Footprint: Converter_DCDC:Converter_DCDC_TRACO_TMR-2xxxxWI_THT; Datasheet: https://www.tracopower.com/products/tmr2wi.pdf; Description_: 135mA Regulated 2W DC/DC converter with 1.5kV isolation, 9V-36V input, 15V fixed Output Voltage, SIP-9
pins: 1 -VIN, 2 +VIN, 3 ON/~{{OFF}}, 6 +VOUT, 7 NC, 8 NC, 9 -VOUT

## TMR2-4810WI
designator *  value TMR2-4810WI  Reference: U
500mA Regulated 2W DC/DC converter with 1.5kV isolation, 18V-75V input, 3.3V fixed Output Voltage, SIP-9; ki_keywords: Traco isolated isolation dc-dc converter transformer; ki_fp_filters: Converter*DCDC*TRACO*TMR*2xxxxWI*; Footprint: Converter_DCDC:Converter_DCDC_TRACO_TMR-2xxxxWI_THT; Datasheet: https://www.tracopower.com/products/tmr2wi.pdf; Description_: 500mA Regulated 2W DC/DC converter with 1.5kV isolation, 18V-75V input, 3.3V fixed Output Voltage, SIP-9
pins: 1 -VIN, 2 +VIN, 3 ON/~{{OFF}}, 6 +VOUT, 7 NC, 8 NC, 9 -VOUT

## TMR2-4811WI
designator *  value TMR2-4811WI  Reference: U
400mA Regulated 2W DC/DC converter with 1.5kV isolation, 18V-75V input, 5V fixed Output Voltage, SIP-9; ki_keywords: Traco isolated isolation dc-dc converter transformer; ki_fp_filters: Converter*DCDC*TRACO*TMR*2xxxxWI*; Footprint: Converter_DCDC:Converter_DCDC_TRACO_TMR-2xxxxWI_THT; Datasheet: https://www.tracopower.com/products/tmr2wi.pdf; Description_: 400mA Regulated 2W DC/DC converter with 1.5kV isolation, 18V-75V input, 5V fixed Output Voltage, SIP-9
pins: 1 -VIN, 2 +VIN, 3 ON/~{{OFF}}, 6 +VOUT, 7 NC, 8 NC, 9 -VOUT

## TMR2-4812WI
designator *  value TMR2-4812WI  Reference: U
165mA Regulated 2W DC/DC converter with 1.5kV isolation, 18V-75V input, 12V fixed Output Voltage, SIP-9; ki_keywords: Traco isolated isolation dc-dc converter transformer; ki_fp_filters: Converter*DCDC*TRACO*TMR*2xxxxWI*; Footprint: Converter_DCDC:Converter_DCDC_TRACO_TMR-2xxxxWI_THT; Datasheet: https://www.tracopower.com/products/tmr2wi.pdf; Description_: 165mA Regulated 2W DC/DC converter with 1.5kV isolation, 18V-75V input, 12V fixed Output Voltage, SIP-9
pins: 1 -VIN, 2 +VIN, 3 ON/~{{OFF}}, 6 +VOUT, 7 NC, 8 NC, 9 -VOUT

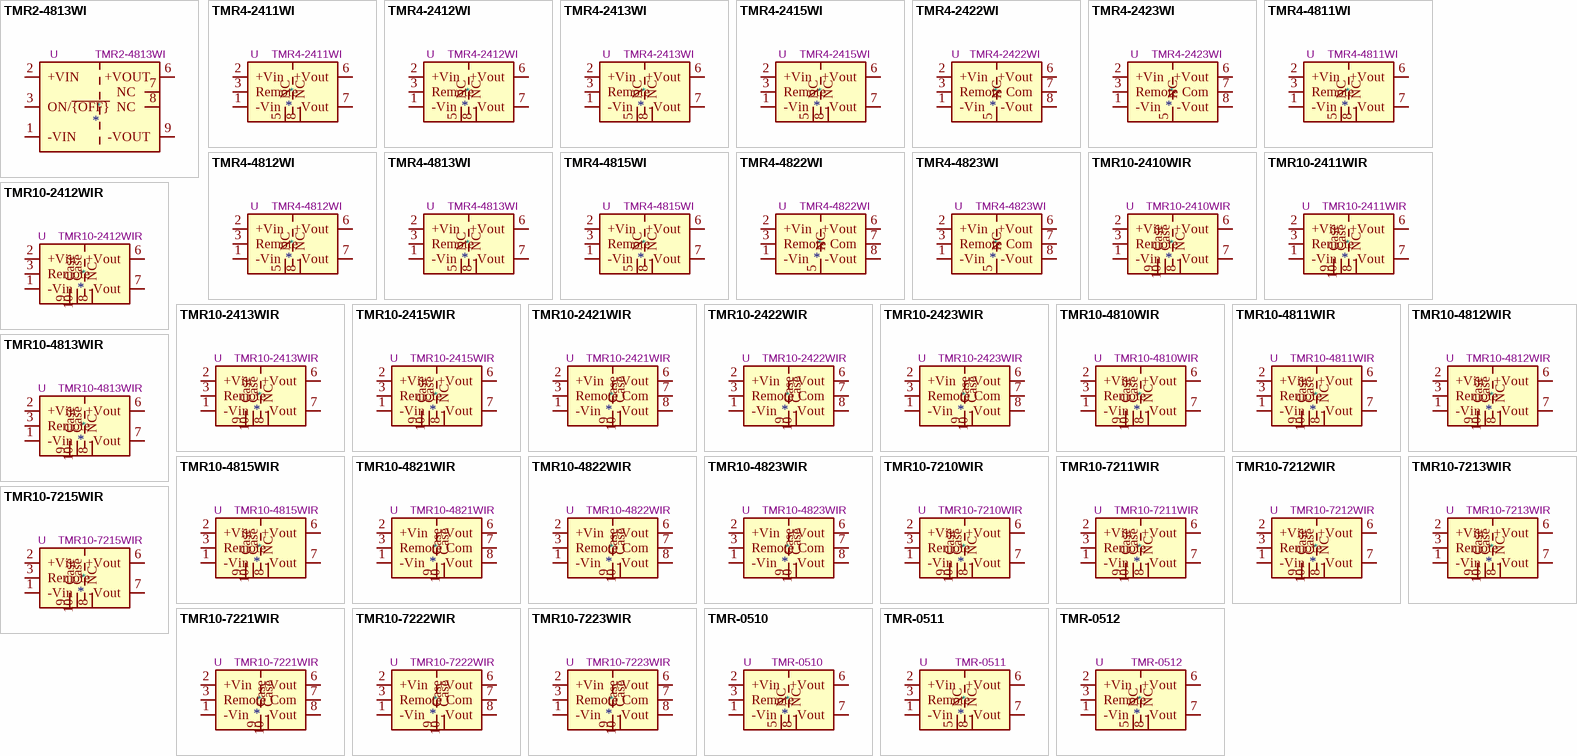
[diagram p19: symbols TMR2-4813WI to TMR-0512]

## TMR2-4813WI
designator *  value TMR2-4813WI  Reference: U
135mA Regulated 2W DC/DC converter with 1.5kV isolation, 18V-75V input, 15V fixed Output Voltage, SIP-9; ki_keywords: Traco isolated isolation dc-dc converter transformer; ki_fp_filters: Converter*DCDC*TRACO*TMR*2xxxxWI*; Footprint: Converter_DCDC:Converter_DCDC_TRACO_TMR-2xxxxWI_THT; Datasheet: https://www.tracopower.com/products/tmr2wi.pdf; Description_: 135mA Regulated 2W DC/DC converter with 1.5kV isolation, 18V-75V input, 15V fixed Output Voltage, SIP-9
pins: 1 -VIN, 2 +VIN, 3 ON/~{{OFF}}, 6 +VOUT, 7 NC, 8 NC, 9 -VOUT

## TMR4-2411WI
designator *  value TMR4-2411WI  Reference: U
4W DC/DC industrial converter regulated, 9-36V input, 5V fixed output voltage, 800mA output, 1.6kVDC isolation, SIP-8; ki_keywords: Traco isolated dc-dc 62368-1 single; ki_fp_filters: Converter*DCDC*TRACO*TMR4*xxxxWI*; Footprint: Converter_DCDC:Converter_DCDC_TRACO_TMR4-xxxxWI_THT; Datasheet: https://www.tracopower.com/products/tmr4wi.pdf; Description_: 4W DC/DC industrial converter regulated, 9-36V input, 5V fixed output voltage, 800mA output, 1.6kVDC isolation, SIP-8
pins: 1 -Vin, 2 +Vin, 3 Remote, 5 NC, 6 +Vout, 7 -Vout, 8 NC

## TMR4-2412WI
designator *  value TMR4-2412WI  Reference: U
4W DC/DC industrial converter regulated, 9-36V input, 12V fixed output voltage, 333mA output, 1.6kVDC isolation, SIP-8; ki_keywords: Traco isolated dc-dc 62368-1 single; ki_fp_filters: Converter*DCDC*TRACO*TMR4*xxxxWI*; Footprint: Converter_DCDC:Converter_DCDC_TRACO_TMR4-xxxxWI_THT; Datasheet: https://www.tracopower.com/products/tmr4wi.pdf; Description_: 4W DC/DC industrial converter regulated, 9-36V input, 12V fixed output voltage, 333mA output, 1.6kVDC isolation, SIP-8
pins: 1 -Vin, 2 +Vin, 3 Remote, 5 NC, 6 +Vout, 7 -Vout, 8 NC

## TMR4-2413WI
designator *  value TMR4-2413WI  Reference: U
4W DC/DC industrial converter regulated, 9-36V input, 15V fixed output voltage, 266mA output, 1.6kVDC isolation, SIP-8; ki_keywords: Traco isolated dc-dc 62368-1 single; ki_fp_filters: Converter*DCDC*TRACO*TMR4*xxxxWI*; Footprint: Converter_DCDC:Converter_DCDC_TRACO_TMR4-xxxxWI_THT; Datasheet: https://www.tracopower.com/products/tmr4wi.pdf; Description_: 4W DC/DC industrial converter regulated, 9-36V input, 15V fixed output voltage, 266mA output, 1.6kVDC isolation, SIP-8
pins: 1 -Vin, 2 +Vin, 3 Remote, 5 NC, 6 +Vout, 7 -Vout, 8 NC

## TMR4-2415WI
designator *  value TMR4-2415WI  Reference: U
4W DC/DC industrial converter regulated, 9-36V input, 24V fixed output voltage, 166mA output, 1.6kVDC isolation, SIP-8; ki_keywords: Traco isolated dc-dc 62368-1 single; ki_fp_filters: Converter*DCDC*TRACO*TMR4*xxxxWI*; Footprint: Converter_DCDC:Converter_DCDC_TRACO_TMR4-xxxxWI_THT; Datasheet: https://www.tracopower.com/products/tmr4wi.pdf; Description_: 4W DC/DC industrial converter regulated, 9-36V input, 24V fixed output voltage, 166mA output, 1.6kVDC isolation, SIP-8
pins: 1 -Vin, 2 +Vin, 3 Remote, 5 NC, 6 +Vout, 7 -Vout, 8 NC

## TMR4-2422WI
designator *  value TMR4-2422WI  Reference: U
4W DC/DC industrial converter regulated, 9-36V input, ±12V fixed output voltage, 166mA each output, 1.6kVDC isolation, SIP-8; ki_keywords: Traco isolated dc-dc 62368-1 dual; ki_fp_filters: Converter*DCDC*TRACO*TMR4*xxxxWI*; Footprint: Converter_DCDC:Converter_DCDC_TRACO_TMR4-xxxxWI_THT; Datasheet: https://www.tracopower.com/products/tmr4wi.pdf; Description_: 4W DC/DC industrial converter regulated, 9-36V input, ±12V fixed output voltage, 166mA each output, 1.6kVDC isolation, SIP-8
pins: 1 -Vin, 2 +Vin, 3 Remote, 5 NC, 6 +Vout, 7 Com, 8 -Vout

## TMR4-2423WI
designator *  value TMR4-2423WI  Reference: U
4W DC/DC industrial converter regulated, 9-36V input, ±15V fixed output voltage, 133mA each output, 1.6kVDC isolation, SIP-8; ki_keywords: Traco isolated dc-dc 62368-1 dual; ki_fp_filters: Converter*DCDC*TRACO*TMR4*xxxxWI*; Footprint: Converter_DCDC:Converter_DCDC_TRACO_TMR4-xxxxWI_THT; Datasheet: https://www.tracopower.com/products/tmr4wi.pdf; Description_: 4W DC/DC industrial converter regulated, 9-36V input, ±15V fixed output voltage, 133mA each output, 1.6kVDC isolation, SIP-8
pins: 1 -Vin, 2 +Vin, 3 Remote, 5 NC, 6 +Vout, 7 Com, 8 -Vout

## TMR4-4811WI
designator *  value TMR4-4811WI  Reference: U
4W DC/DC industrial converter regulated, 18-75V input, 5V fixed output voltage, 800mA output, 1.6kVDC isolation, SIP-8; ki_keywords: Traco isolated dc-dc 62368-1 single; ki_fp_filters: Converter*DCDC*TRACO*TMR4*xxxxWI*; Footprint: Converter_DCDC:Converter_DCDC_TRACO_TMR4-xxxxWI_THT; Datasheet: https://www.tracopower.com/products/tmr4wi.pdf; Description_: 4W DC/DC industrial converter regulated, 18-75V input, 5V fixed output voltage, 800mA output, 1.6kVDC isolation, SIP-8
pins: 1 -Vin, 2 +Vin, 3 Remote, 5 NC, 6 +Vout, 7 -Vout, 8 NC

## TMR4-4812WI
designator *  value TMR4-4812WI  Reference: U
4W DC/DC industrial converter regulated, 18-75V input, 12V fixed output voltage, 333mA output, 1.6kVDC isolation, SIP-8; ki_keywords: Traco isolated dc-dc 62368-1 single; ki_fp_filters: Converter*DCDC*TRACO*TMR4*xxxxWI*; Footprint: Converter_DCDC:Converter_DCDC_TRACO_TMR4-xxxxWI_THT; Datasheet: https://www.tracopower.com/products/tmr4wi.pdf; Description_: 4W DC/DC industrial converter regulated, 18-75V input, 12V fixed output voltage, 333mA output, 1.6kVDC isolation, SIP-8
pins: 1 -Vin, 2 +Vin, 3 Remote, 5 NC, 6 +Vout, 7 -Vout, 8 NC

## TMR4-4813WI
designator *  value TMR4-4813WI  Reference: U
4W DC/DC industrial converter regulated, 18-75V input, 15V fixed output voltage, 266mA output, 1.6kVDC isolation, SIP-8; ki_keywords: Traco isolated dc-dc 62368-1 single; ki_fp_filters: Converter*DCDC*TRACO*TMR4*xxxxWI*; Footprint: Converter_DCDC:Converter_DCDC_TRACO_TMR4-xxxxWI_THT; Datasheet: https://www.tracopower.com/products/tmr4wi.pdf; Description_: 4W DC/DC industrial converter regulated, 18-75V input, 15V fixed output voltage, 266mA output, 1.6kVDC isolation, SIP-8
pins: 1 -Vin, 2 +Vin, 3 Remote, 5 NC, 6 +Vout, 7 -Vout, 8 NC